# Altium integrated library L7815CV.IntLib: 1 symbol
Pins are listed as number, name and electrical type; pins without a type are passive.

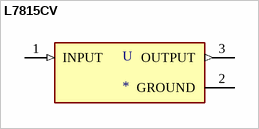
[diagram p0: symbol L7815CV]

## L7815CV
designator U
Linear Voltage Regulator IC 1 Output 1.5A TO-220AB; MP: L7815CV; MF: STMicroelectronics; Package: TO-220 STMicroelectronics; Availability: Unavailable; Price: None; Value: *; SnapEDA_Link: https://www.snapeda.com/parts/L7815CV/STMicroelectronics/view-part/4730/?ref=snap
footprint TO255P1040X460X1935-3
pins: 1 INPUT (in), 2 GROUND (power), 3 OUTPUT (out)